# Altium footprint library Acorn.PcbLib: 4 footprints
Each footprint in its own frame and in the unit in brackets; x right, y up, seen from the top. Pads: shape width x height; smd on the part's side, far side on the other; paste and mask are expansions set on the pad; w line width, h text height; cw(c..) or ccw(c..) is an arc to the next point about the centre after c.
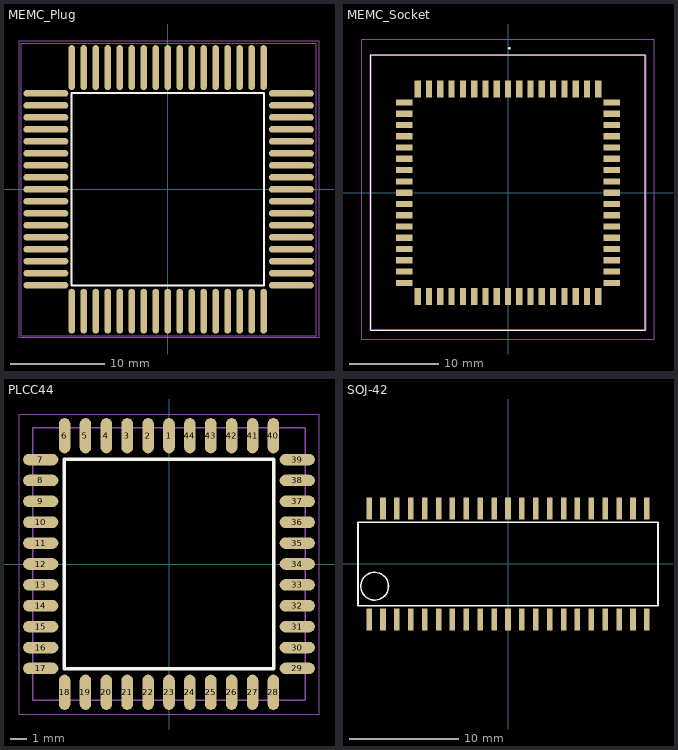
[diagram p0: the footprints below, top view; thin cyan lines are the x and y axes]

## MEMC_Plug [mm]
height 4.85
pads (68):
  rrect100% 0.7x4.75 smd: 1(0,-12.9) 2(-1.27,-12.9) 3(-2.54,-12.9) 4(-3.81,-12.9) 5(-5.08,-12.9) 6(-6.35,-12.9) 7(-7.62,-12.9) 8(-8.89,-12.9) 9(-10.16,-12.9) 27(-10.16,12.9) 28(-8.89,12.9) 29(-7.62,12.9) 30(-6.35,12.9) 31(-5.08,12.9) 32(-3.81,12.9) 33(-2.54,12.9) 34(-1.27,12.9) 35(0,12.9) 36(1.27,12.9) 37(2.54,12.9) 38(3.81,12.9) 39(5.08,12.9) 40(6.35,12.9) 41(7.62,12.9) 42(8.89,12.9) 43(10.16,12.9) 61(10.16,-12.9) 62(8.89,-12.9) 63(7.62,-12.9) 64(6.35,-12.9) 65(5.08,-12.9) 66(3.81,-12.9) 67(2.54,-12.9) 68(1.27,-12.9)
  rrect100% 4.75x0.7 smd: 10(-12.9,-10.16) 11(-12.9,-8.89) 12(-12.9,-7.62) 13(-12.9,-6.35) 14(-12.9,-5.08) 15(-12.9,-3.81) 16(-12.9,-2.54) 17(-12.9,-1.27) 18(-12.9,0) 19(-12.9,1.27) 20(-12.9,2.54) 21(-12.9,3.81) 22(-12.9,5.08) 23(-12.9,6.35) 24(-12.9,7.62) 25(-12.9,8.89) 26(-12.9,10.16) 44(13.1,10.16) 45(13.1,8.89) 46(13.1,7.62) 47(13.1,6.35) 48(13.1,5.08) 49(13.1,3.81) 50(13.1,2.54) 51(13.1,1.27) 52(13.1,0) 53(13.1,-1.27) 54(13.1,-2.54) 55(13.1,-3.81) 56(13.1,-5.08) 57(13.1,-6.35) 58(13.1,-7.62) 59(13.1,-8.89) 60(13.1,-10.16)
Top Overlay:
  lines w0.2: -10.192,-10.192 -10.192,10.192 10.192,10.192 10.192,-10.192 -10.192,-10.192
Mechanical 14:
  lines w0.1: -15.519,-15.494 -15.519,15.469 15.748,15.469 15.748,-15.494 -15.519,-15.494
Mechanical 16:
  lines w0.05: -15.748,-15.646 -15.748,15.723 16.027,15.723 16.027,-15.646 -15.748,-15.646
3D body "TL16C554FN.stp": height 7.5, standoff 3.16, extent -12.573,-12.573 12.573,12.573

## MEMC_Socket [mm]
height 4.85
pads (68):
  rect 0.7x1.91 smd: 1(0,11.68) 2(-1.27,11.68) 3(-2.54,11.68) 4(-3.81,11.68) 5(-5.08,11.68) 6(-6.35,11.68) 7(-7.62,11.68) 8(-8.89,11.68) 9(-10.16,11.68) 27(-10.16,-11.68) 28(-8.89,-11.68) 29(-7.62,-11.68) 30(-6.35,-11.68) 31(-5.08,-11.68) 32(-3.81,-11.68) 33(-2.54,-11.68) 34(-1.27,-11.68) 35(0,-11.68) 36(1.27,-11.68) 37(2.54,-11.68) 38(3.81,-11.68) 39(5.08,-11.68) 40(6.35,-11.68) 41(7.62,-11.68) 42(8.89,-11.68) 43(10.16,-11.68) 61(10.16,11.68) 62(8.89,11.68) 63(7.62,11.68) 64(6.35,11.68) 65(5.08,11.68) 66(3.81,11.68) 67(2.54,11.68) 68(1.27,11.68)
  rect 1.91x0.7 smd: 10(-11.68,10.16) 11(-11.68,8.89) 12(-11.68,7.62) 13(-11.68,6.35) 14(-11.68,5.08) 15(-11.68,3.81) 16(-11.68,2.54) 17(-11.68,1.27) 18(-11.68,0) 19(-11.68,-1.27) 20(-11.68,-2.54) 21(-11.68,-3.81) 22(-11.68,-5.08) 23(-11.68,-6.35) 24(-11.68,-7.62) 25(-11.68,-8.89) 26(-11.68,-10.16) 44(11.68,-10.16) 45(11.68,-8.89) 46(11.68,-7.62) 47(11.68,-6.35) 48(11.68,-5.08) 49(11.68,-3.81) 50(11.68,-2.54) 51(11.68,-1.27) 52(11.68,0) 53(11.68,1.27) 54(11.68,2.54) 55(11.68,3.81) 56(11.68,5.08) 57(11.68,6.35) 58(11.68,7.62) 59(11.68,8.89) 60(11.68,10.16)
Top Overlay:
  lines w0.1: -15.475,-15.475 15.475,-15.475 15.475,15.5 -15.475,15.5 -15.475,-15.475
  lines w0.2: 0.1,16.25 ccw(c0.15,16.25) 0.2,16.25 ; 0.1,16.25 cw(c0.15,16.25) 0.2,16.25 ; 0.1,16.25 ccw(c0.15,16.25) 0.2,16.25
Mechanical 13:
  lines w0.2: -15.475,-15.475 15.475,-15.475 15.475,15.475 -15.475,15.475 -15.475,-15.475
Mechanical 15:
  lines w0.1: -16.475,-16.475 16.475,-16.475 16.475,17.3 -16.475,17.3 -16.475,-16.475
3D body "plcc68_p1-27_l24-33_w24-33.stp": height 5.08, standoff 0.13, extent -12.57,-12.762 12.7,12.508
3D body "8468-21b1-01.stp": height 4.46, standoff -0.19, extent -15.367,-15.24 15.367,15.47

## PLCC44 [mm]
height 4.85
pads (44):
  rrect100% 0.7x2.144 smd: 1(0,7.803) 2(-1.27,7.803) 3(-2.54,7.803) 4(-3.81,7.803) 5(-5.08,7.803) 6(-6.35,7.803) 18(-6.35,-7.803) 19(-5.08,-7.803) 20(-3.81,-7.803) 21(-2.54,-7.803) 22(-1.27,-7.803) 23(0,-7.803) 24(1.27,-7.803) 25(2.54,-7.803) 26(3.81,-7.803) 27(5.08,-7.803) 28(6.35,-7.803) 40(6.35,7.803) 41(5.08,7.803) 42(3.81,7.803) 43(2.54,7.803) 44(1.27,7.803)
  rrect100% 2.144x0.7 smd: 7(-7.803,6.35) 8(-7.803,5.08) 9(-7.803,3.81) 10(-7.803,2.54) 11(-7.803,1.27) 12(-7.803,0) 13(-7.803,-1.27) 14(-7.803,-2.54) 15(-7.803,-3.81) 16(-7.803,-5.08) 17(-7.803,-6.35) 29(7.803,-6.35) 30(7.803,-5.08) 31(7.803,-3.81) 32(7.803,-2.54) 33(7.803,-1.27) 34(7.803,0) 35(7.803,1.27) 36(7.803,2.54) 37(7.803,3.81) 38(7.803,5.08) 39(7.803,6.35)
Top Overlay:
  lines w0.2: -6.381,-6.381 -6.381,6.381 6.381,6.381 6.381,-6.381 -6.381,-6.381
Mechanical 13:
  lines w0.1: -8.293,-8.293 -8.293,8.293 8.293,8.293 8.293,-8.293 -8.293,-8.293
Mechanical 15:
  lines w0.05: -9.125,-9.125 -9.125,9.125 9.125,9.125 9.125,-9.125 -9.125,-9.125
3D body "User Library-PLCC44-1.step": height 4.3, standoff -0.04, extent -8.8,-8.8 8.8,8.8

## SOJ-42 [mil]
pads (42):
  rect 20x80 smd mask+7.87: 1(-500,-200) 2(-450,-200) 3(-400,-200) 4(-350,-200) 5(-300,-200) 6(-250,-200) 7(-200,-200) 8(-150,-200) 9(-100,-200) 10(-50,-200) 11(0,-200) 12(50,-200) 13(100,-200) 14(150,-200) 15(200,-200) 16(250,-200) 17(300,-200) 18(350,-200) 19(400,-200) 20(450,-200) 21(500,-200) 22(500,200) 23(450,200) 24(400,200) 25(350,200) 26(300,200) 27(250,200) 28(200,200) 29(150,200) 30(100,200) 31(50,200) 32(0,200) 33(-50,200) 34(-100,200) 35(-150,200) 36(-200,200) 37(-250,200) 38(-300,200) 39(-350,200) 40(-400,200) 41(-450,200) 42(-500,200)
Top Overlay:
  circle w5.91: c-480,-80 r50
  lines w5.91: -540,-150 540,-150 540,150 -540,150 -540,-150
3D body "User Library-SOJ-42.step": height 149.3, standoff 0.09, extent -562.99,-220 562.99,224.88